# Altium footprint library Crystal.PcbLib: 185 footprints (part 9 of 12)
Each footprint in its own frame and in the unit in brackets; x right, y up, seen from the top. Pads: shape width x height; smd on the part's side, far side on the other; paste and mask are expansions set on the pad; w line width, h text height; cw(c..) or ccw(c..) is an arc to the next point about the centre after c.
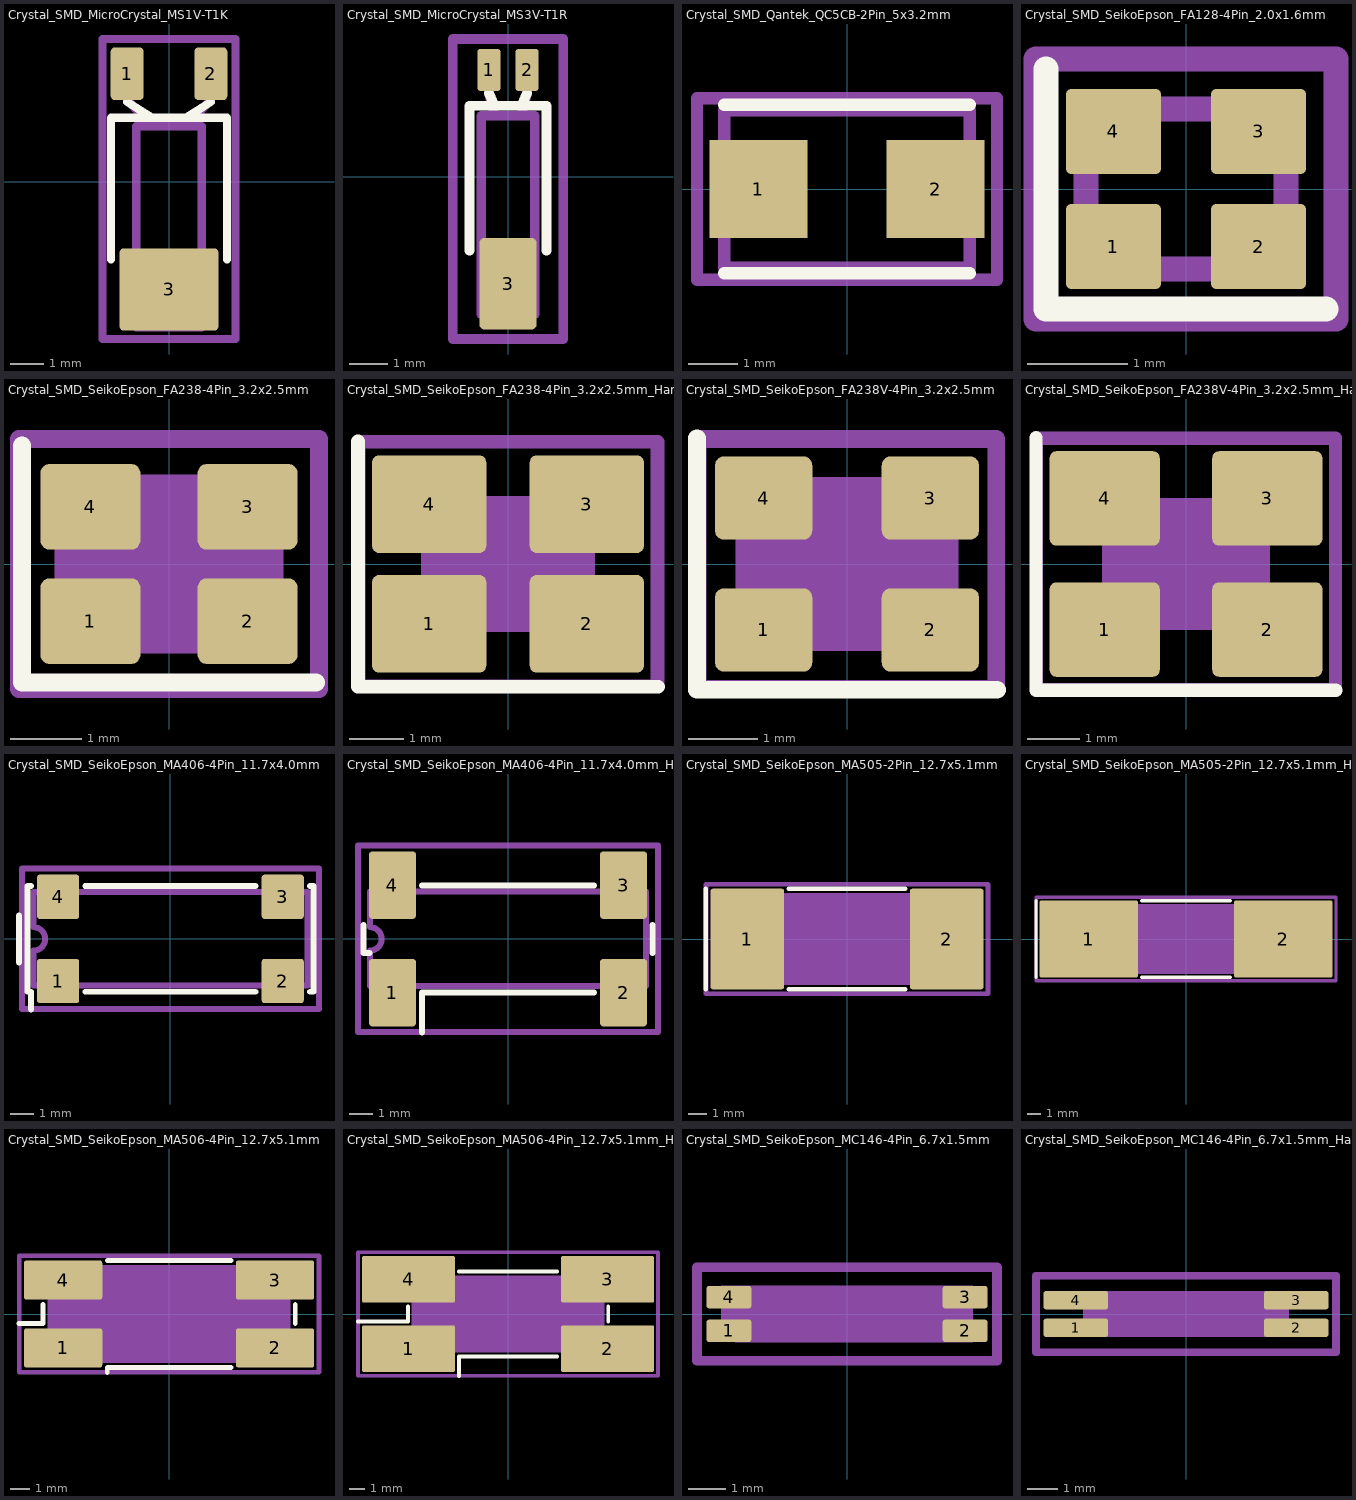
[diagram p8: the footprints below, top view; thin cyan lines are the x and y axes]

## Crystal_SMD_MicroCrystal_MS1V-T1K [mm]
pads (3):
  rrect25% 1x1.6 smd: 1(-1.27,3.275) 2(1.27,3.275)
  rrect10% 3x2.5 smd: 3(0,-3.275)
F.SilkS:
  lines w0.254: -1.76,-2.365 -1.76,1.935 1.76,1.935 1.76,-2.365 ; -1.27,2.415 -0.5,1.935 ; 0.5,1.935 1.27,2.415
Top Assembly:
  lines w0.254: -1.27,3.275 -1.27,2.475 -0.5,1.675 ; 0.5,1.675 1.27,2.475 1.27,3.275 ; -1,-4.425 1,-4.425 1,1.675 -1,1.675 -1,-4.425
  text "'.Designator'" at 0.84,-5.182 h1
Top Courtyard:
  lines w0.254: -2.02,-4.78 2.02,-4.78 2.02,4.33 -2.02,4.33 -2.02,-4.78
Top Designator:
  text ".Designator" at -7.618,-0.945 h1.52

## Crystal_SMD_MicroCrystal_MS3V-T1R [mm]
pads (3):
  rrect25% 0.6x1.1 smd: 1(-0.5,2.8) 2(0.5,2.8)
  rrect17% 1.5x2.4 smd: 3(0,-2.8)
F.SilkS:
  lines w0.254: -1.01,-1.94 -1.01,1.86 1.01,1.86 1.01,-1.94 ; -0.5,2.19 -0.35,1.86 ; 0.35,1.86 0.5,2.19
Top Assembly:
  lines w0.254: -0.5,2.8 -0.5,2.2 -0.35,1.6 ; 0.35,1.6 0.5,2.2 0.5,2.8 ; -0.7,-3.6 0.7,-3.6 0.7,1.6 -0.7,1.6 -0.7,-3.6
  text "'.Designator'" at 0.84,-5.157 h1
Top Courtyard:
  lines w0.254: -1.45,-4.25 1.45,-4.25 1.45,3.61 -1.45,3.61 -1.45,-4.25
Top Designator:
  text ".Designator" at -7.618,-1.293 h1.52

## Crystal_SMD_Qantek_QC5CB-2Pin_5x3.2mm [mm]
pads (2):
  rect 2x2 smd: 1(-1.8,0) 2(1.8,0)
F.SilkS:
  lines w0.254: -2.5,-1.71 2.5,-1.71 ; -2.5,1.71 2.5,1.71
Top Assembly:
  lines w0.254: -2.5,-1.6 2.5,-1.6 2.5,1.6 -2.5,1.6 -2.5,-1.6
  text "'.Designator'" at -4.047,1.86 h1
Top Courtyard:
  lines w0.254: -3.05,-1.85 3.05,-1.85 3.05,1.85 -3.05,1.85 -3.05,-1.85
Top Designator:
  text ".Designator" at -7.768,0.032 h1.52

## Crystal_SMD_SeikoEpson_FA128-4Pin_2.0x1.6mm [mm]
pads (4):
  rrect12% 0.95x0.85 smd: 1(-0.725,-0.575) 2(0.725,-0.575) 3(0.725,0.575) 4(-0.725,0.575)
F.SilkS:
  lines w0.254: -1.4,1.2 -1.4,-1.2 1.4,-1.2
Top Assembly:
  lines w0.254: -1,-0.4 -0.6,-0.8 1,-0.8 1,0.8 -1,0.8 -1,-0.4
  text "'.Designator'" at -2.833,-0.588 h0.7
Top Courtyard:
  lines w0.254: -1.5,-1.3 1.5,-1.3 1.5,1.3 -1.5,1.3 -1.5,-1.3
Top Designator:
  text ".Designator" at -7.723,-0.508 h1.52

## Crystal_SMD_SeikoEpson_FA238-4Pin_3.2x2.5mm [mm]
pads (4):
  rrect21% 1.4x1.2 smd: 1(-1.1,-0.8) 2(1.1,-0.8) 3(1.1,0.8) 4(-1.1,0.8)
F.SilkS:
  lines w0.254: -2.06,1.66 -2.06,-1.66 2.06,-1.66
Top Assembly:
  region: 1.6,-1.25 -0.975,-1.25 -1.6,-0.625 -1.6,1.25 1.6,1.25
  text "'.Designator'" at -3.237,-0.672 h0.8
Top Courtyard:
  lines w0.254: -2.1,-1.75 2.1,-1.75 2.1,1.75 -2.1,1.75 -2.1,-1.75
Top Designator:
  text ".Designator" at -7.738,-0.508 h1.52

## Crystal_SMD_SeikoEpson_FA238-4Pin_3.2x2.5mm_HandSoldering [mm]
pads (4):
  rrect14% 2.1x1.8 smd: 1(-1.45,-1.1) 2(1.45,-1.1) 3(1.45,1.1) 4(-1.45,1.1)
F.SilkS:
  lines w0.254: -2.76,2.26 -2.76,-2.26 2.76,-2.26
Top Assembly:
  region: 1.6,-1.25 -0.975,-1.25 -1.6,-0.625 -1.6,1.25 1.6,1.25
  text "'.Designator'" at -3.237,-0.672 h0.8
Top Courtyard:
  lines w0.254: -2.75,-2.25 2.75,-2.25 2.75,2.25 -2.75,2.25 -2.75,-2.25
Top Designator:
  text ".Designator" at -7.738,-0.508 h1.52

## Crystal_SMD_SeikoEpson_FA238V-4Pin_3.2x2.5mm [mm]
pads (4):
  rrect21% 1.4x1.2 smd: 1(-1.2,-0.95) 2(1.2,-0.95) 3(1.2,0.95) 4(-1.2,0.95)
F.SilkS:
  lines w0.254: -2.16,1.81 -2.16,-1.81 2.16,-1.81
Top Assembly:
  region: 1.6,-1.25 -0.975,-1.25 -1.6,-0.625 -1.6,1.25 1.6,1.25
  text "'.Designator'" at -3.237,-0.672 h0.8
Top Courtyard:
  lines w0.254: -2.15,-1.8 2.15,-1.8 2.15,1.8 -2.15,1.8 -2.15,-1.8
Top Designator:
  text ".Designator" at -7.738,-0.508 h1.52

## Crystal_SMD_SeikoEpson_FA238V-4Pin_3.2x2.5mm_HandSoldering [mm]
pads (4):
  rrect14% 2.1x1.8 smd: 1(-1.55,-1.25) 2(1.55,-1.25) 3(1.55,1.25) 4(-1.55,1.25)
F.SilkS:
  lines w0.254: -2.86,2.41 -2.86,-2.41 2.86,-2.41
Top Assembly:
  region: 1.6,-1.25 -0.975,-1.25 -1.6,-0.625 -1.6,1.25 1.6,1.25
  text "'.Designator'" at -3.237,-0.672 h0.8
Top Courtyard:
  lines w0.254: -2.85,-2.4 2.85,-2.4 2.85,2.4 -2.85,2.4 -2.85,-2.4
Top Designator:
  text ".Designator" at -7.738,-0.508 h1.52

## Crystal_SMD_SeikoEpson_MA406-4Pin_11.7x4.0mm [mm]
pads (4):
  rrect14% 1.8x1.9 smd: 1(-4.8,-1.8) 2(4.8,-1.8) 3(4.8,1.8) 4(-4.8,1.8)
F.SilkS:
  lines w0.254: -6.47,-1 -6.47,1 ; -5.96,-3.01 -5.96,-2.26 -6.11,-2.26 -6.11,2.26 -5.96,2.26 ; -3.64,-2.26 3.64,-2.26 ; -3.64,2.26 3.64,2.26 ; 5.96,-2.26 6.11,-2.26 6.11,2.26 5.96,2.26
Top Assembly:
  lines w0.254: -5.85,-2 5.85,-2 5.85,2 -5.85,2 -5.85,0.5 cw(c-5.85,0) -5.85,-0.5 -5.85,-2
  text "'.Designator'" at -4.047,-0.84 h1
Top Courtyard:
  lines w0.254: -6.35,-3 6.35,-3 6.35,3 -6.35,3 -6.35,-3
Top Designator:
  text ".Designator" at -7.678,-0.513 h1.52

## Crystal_SMD_SeikoEpson_MA406-4Pin_11.7x4.0mm_HandSoldering [mm]
pads (4):
  rrect13% 1.98x2.85 smd: 1(-4.89,-2.275) 2(4.89,-2.275) 3(4.89,2.275) 4(-4.89,2.275)
F.SilkS:
  lines w0.254: -6.11,0.59 -6.11,-0.59 -5.87,-0.59 ; -3.64,-3.96 -3.64,-2.26 3.64,-2.26 ; -3.64,2.26 3.64,2.26 ; 6.11,-0.59 6.11,0.59
Top Assembly:
  lines w0.254: -5.85,-2 5.85,-2 5.85,2 -5.85,2 -5.85,0.5 cw(c-5.85,0) -5.85,-0.5 -5.85,-2
  text "'.Designator'" at -4.047,-0.84 h1
Top Courtyard:
  lines w0.254: -6.35,-3.95 6.35,-3.95 6.35,3.95 -6.35,3.95 -6.35,-3.95
Top Designator:
  text ".Designator" at -7.618,-0.513 h1.52

## Crystal_SMD_SeikoEpson_MA505-2Pin_12.7x5.1mm [mm]
pads (2):
  rrect6% 4.1x5.6 smd: 1(-5.55,0) 2(5.55,0)
F.SilkS:
  lines w0.254: -7.86,-2.8 -7.86,2.8 ; -3.24,-2.8 3.24,-2.8 ; -3.24,2.8 3.24,2.8
Top Assembly:
  region: 6.35,-2.54 -5.35,-2.54 -6.35,-1.54 -6.35,2.54 6.35,2.54
  text "'.Designator'" at -4.047,-0.84 h1
Top Courtyard:
  lines w0.254: -7.85,-3.05 7.85,-3.05 7.85,3.05 -7.85,3.05 -7.85,-3.05
Top Designator:
  text ".Designator" at -7.623,-0.508 h1.52

## Crystal_SMD_SeikoEpson_MA505-2Pin_12.7x5.1mm_HandSoldering [mm]
pads (2):
  rrect4% 7.175x5.6 smd: 1(-7.087,0) 2(7.087,0)
F.SilkS:
  lines w0.254: -10.935,-2.8 -10.935,2.8 ; -3.24,-2.8 3.24,-2.8 ; -3.24,2.8 3.24,2.8
Top Assembly:
  region: 6.35,-2.54 -5.35,-2.54 -6.35,-1.54 -6.35,2.54 6.35,2.54
  text "'.Designator'" at -4.047,-0.84 h1
Top Courtyard:
  lines w0.254: -10.93,-3.05 10.93,-3.05 10.93,3.05 -10.93,3.05 -10.93,-3.05
Top Designator:
  text ".Designator" at -7.62,-0.508 h1.52

## Crystal_SMD_SeikoEpson_MA506-4Pin_12.7x5.1mm [mm]
pads (4):
  rrect12% 4.1x2.05 smd: 1(-5.55,-1.775) 2(5.55,-1.775) 3(5.55,1.775) 4(-5.55,1.775)
F.SilkS:
  lines w0.254: -7.86,-0.49 -6.61,-0.49 -6.61,0.49 ; -3.24,-3.06 -3.24,-2.8 3.24,-2.8 ; -3.24,2.8 3.24,2.8 ; 6.61,-0.49 6.61,0.49
Top Assembly:
  region: 6.35,-2.54 -5.35,-2.54 -6.35,-1.54 -6.35,2.54 6.35,2.54
  text "'.Designator'" at -4.047,-0.84 h1
Top Courtyard:
  lines w0.254: -7.85,-3.05 7.85,-3.05 7.85,3.05 -7.85,3.05 -7.85,-3.05
Top Designator:
  text ".Designator" at -7.623,-0.513 h1.52

## Crystal_SMD_SeikoEpson_MA506-4Pin_12.7x5.1mm_HandSoldering [mm]
pads (4):
  rrect8% 6.15x3.075 smd: 1(-6.575,-2.288) 2(6.575,-2.288) 3(6.575,2.288) 4(-6.575,2.288)
F.SilkS:
  lines w0.254: -9.91,-0.49 -6.61,-0.49 -6.61,0.49 ; -3.24,-4.085 -3.24,-2.8 3.24,-2.8 ; -3.24,2.8 3.24,2.8 ; 6.61,-0.49 6.61,0.49
Top Assembly:
  region: 6.35,-2.54 -5.35,-2.54 -6.35,-1.54 -6.35,2.54 6.35,2.54
  text "'.Designator'" at -4.047,-0.84 h1
Top Courtyard:
  lines w0.254: -9.9,-4.08 9.9,-4.08 9.9,4.08 -9.9,4.08 -9.9,-4.08
Top Designator:
  text ".Designator" at -7.623,-0.51 h1.52

## Crystal_SMD_SeikoEpson_MC146-4Pin_6.7x1.5mm [mm]
pads (4):
  rrect25% 1.2x0.6 smd: 1(-3.15,-0.45) 2(3.15,-0.45) 3(3.15,0.45) 4(-3.15,0.45)
Top Assembly:
  region: 3.35,-0.75 -2.975,-0.75 -3.35,-0.375 -3.35,0.75 3.35,0.75
  text "'.Designator'" at -4.047,-0.84 h1
Top Courtyard:
  lines w0.254: -4,-1.25 4,-1.25 4,1.25 -4,1.25 -4,-1.25
Top Designator:
  text ".Designator" at -7.652,-0.508 h1.52

## Crystal_SMD_SeikoEpson_MC146-4Pin_6.7x1.5mm_HandSoldering [mm]
pads (4):
  rrect25% 2.1x0.6 smd: 1(-3.6,-0.45) 2(3.6,-0.45) 3(3.6,0.45) 4(-3.6,0.45)
Top Assembly:
  region: 3.35,-0.75 -2.975,-0.75 -3.35,-0.375 -3.35,0.75 3.35,0.75
  text "'.Designator'" at -4.047,-0.84 h1
Top Courtyard:
  lines w0.254: -4.9,-1.25 4.9,-1.25 4.9,1.25 -4.9,1.25 -4.9,-1.25
Top Designator:
  text ".Designator" at -7.618,-0.508 h1.52